# EAGLE library part RFM12 (library edeca)
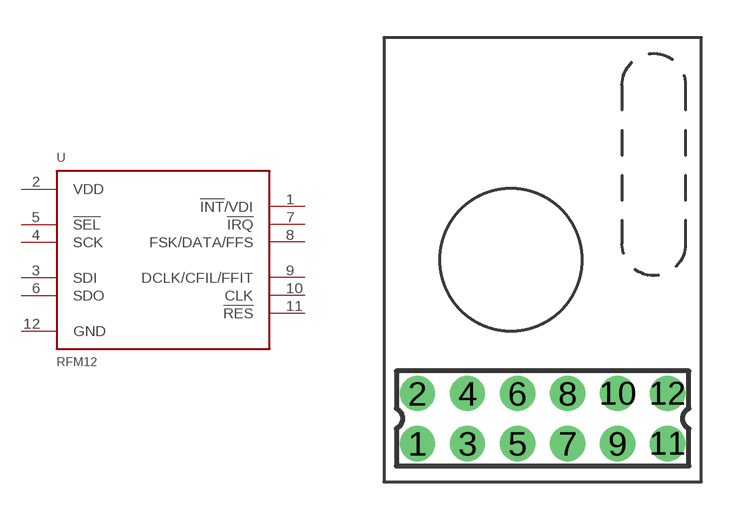
[diagram p7: symbol with the pads of RFM12-PIN; footprint RFM12-PIN]

Designator prefix -

## RFM12  [RFM12-PIN]
1  !INT!/VDI
2  VDD  pwr
3  SDI
4  SCK
5  !SEL
6  SDO
7  !IRQ  out
8  FSK/DATA/FFS
9  DCLK/CFIL/FFIT  out
10  CLK  out
11  !RES
12  GND  pwr

## Footprint RFM12-PIN (pad centres in mm)
12 Pin - 2mm Dual Row Single Wafer, Vertical T/H HDR Source: http://www.molex.com/pdm_docs/sd/877580616_sd.pdf
drill 0.9 pad 1.27 round: 1 -5,-1; 2 -5,1; 3 -3,-1; 4 -3,1; 5 -1,-1; 6 -1,1; 7 1,-1; 8 1,1; 9 3,-1; 10 3,1; 11 5,-1; 12 5,1